# Altium footprint library BQ24210.PcbLib: 1 footprints
Each footprint in its own frame and in the unit in brackets; x right, y up, seen from the top. Pads: shape width x height; smd on the part's side, far side on the other; paste and mask are expansions set on the pad; w line width, h text height; cw(c..) or ccw(c..) is an arc to the next point about the centre after c.
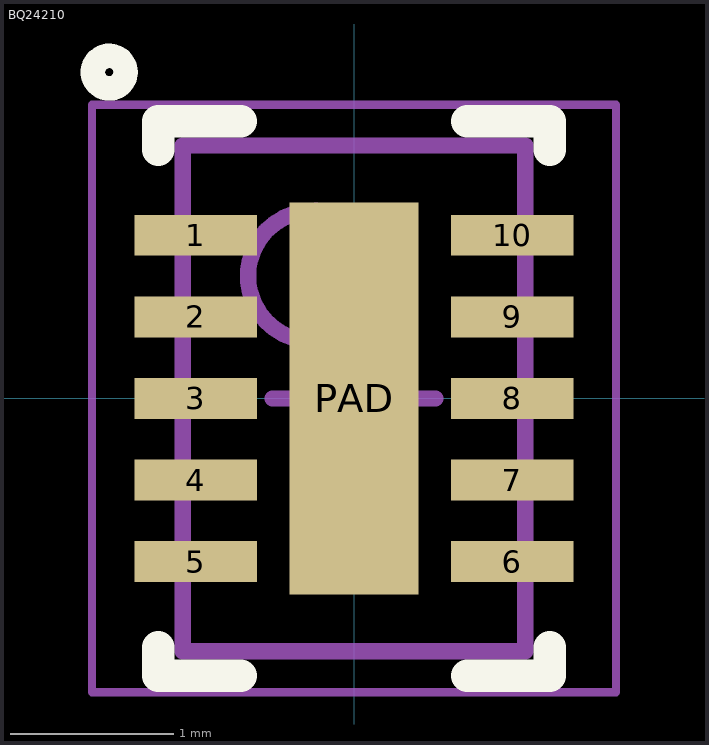
[diagram p0: the footprint, top view; thin cyan lines are the x and y axes]

## BQ24210 [mm] "WSON, 10-Leads, Body 3.00x2.00mm, Pitch 0.50mm, Thermal Pad 2.40x0.79mm, IPC Medium Density"
height 0.8
pads (11):
  rect 0.75x0.25 smd: 1(-0.97,1) 2(-0.97,0.5) 3(-0.97,0) 4(-0.97,-0.5) 5(-0.97,-1) 6(0.97,-1) 7(0.97,-0.5) 8(0.97,0) 9(0.97,0.5) 10(0.97,1)
  rect 0.79x2.4 smd: PAD(0,0)
Top Overlay:
  circle w0.15: c-1.5,2 r0.1
  lines w0.2: -1.2,-1.525 -1.2,-1.7 -0.695,-1.7 ; -1.2,1.525 -1.2,1.7 -0.695,1.7 ; 0.695,-1.7 1.2,-1.7 1.2,-1.525 ; 0.695,1.7 1.2,1.7 1.2,1.525
Mechanical 13:
  circle w0.1: c-0.25,0.75 r0.4
  lines w0.1: -1.05,-1.55 1.05,-1.55 1.05,1.55 -1.05,1.55 -1.05,-1.55
Mechanical 15:
  lines w0.05: -1.605,-1.8 1.605,-1.8 1.605,1.8 -1.605,1.8 -1.605,-1.8
  lines w0.1: -0.5,0 0.5,0 ; 0,-0.5 0,0.5
3D body: height 0.8, standoff 0.08, extent -1.05,-1.55 1.05,1.55